# Altium footprint library TO263-3-SPE-IPB039N10N3.PcbLib: 1 footprints
Each footprint in its own frame and in the unit in brackets; x right, y up, seen from the top. Pads: shape width x height; smd on the part's side, far side on the other; paste and mask are expansions set on the pad; w line width, h text height; cw(c..) or ccw(c..) is an arc to the next point about the centre after c.
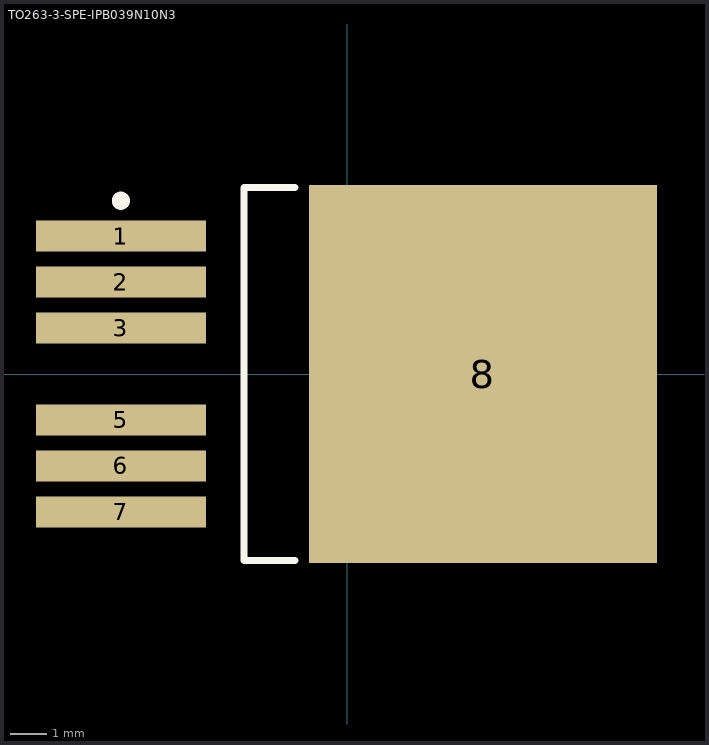
[diagram p0: the footprint, top view; thin cyan lines are the x and y axes]

## TO263-3-SPE-IPB039N10N3 [mm]
height 4.4
pads (7):
  rect 4.7x0.85 smd: 1(-6.25,3.81) 2(-6.25,2.54) 3(-6.25,1.27) 5(-6.25,-1.27) 6(-6.25,-2.54) 7(-6.25,-3.81)
  rect 9.6x10.45 smd: 8(3.75,0)
Top Overlay:
  circle w0.25: c-6.25,4.785 r0.125
  lines w0.2: -1.45,-5.15 -2.85,-5.15 -2.85,5.15 -1.45,5.15
3D body: height 4.5, standoff 0, extent -7.949,-5.2 7.725,5.2